# EAGLE library part L80GPS (library myLib)
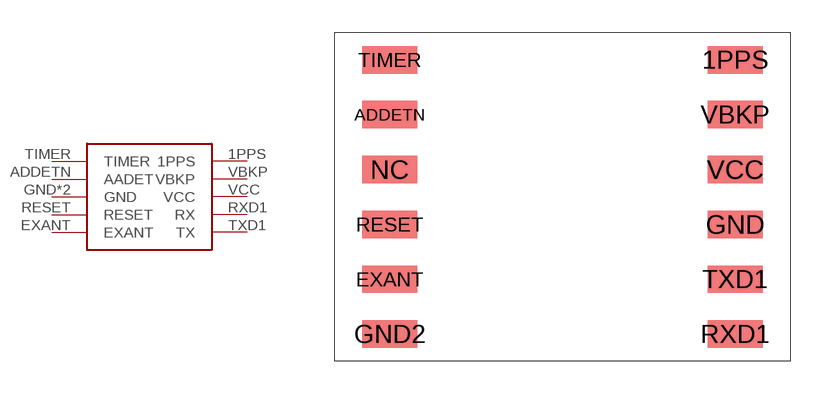
[diagram p12: symbol with the pads of L80GPS; footprint L80GPS]

Designator prefix -

## L80GPS  [L80GPS]
1PPS  1PPS
ADDETN  AADET
EXANT  EXANT
GND  GND
GND2  GND
RESET  RESET
RXD1  RX
TIMER  TIMER
TXD1  TX
VBKP  VBKP
VCC  VCC

## Footprint L80GPS (pad centres in mm)
smd 2.54 x 1.27: 1PPS 8.38,6.35; ADDETN -7.62,3.81; EXANT -7.62,-3.81; GND 8.38,-1.27; GND2 -7.62,-6.35; NC -7.62,1.27; RESET -7.62,-1.27; RXD1 8.38,-6.35; TIMER -7.62,6.35; TXD1 8.38,-3.81; VBKP 8.38,3.81; VCC 8.38,1.27